# EAGLE library part ESP32-32D (library CustomParts)
IC: SoC; GPIO, I2C, I2S, IR, SD, SDIO, SPI, UART; 2.7÷3.6VDC; 20dBm
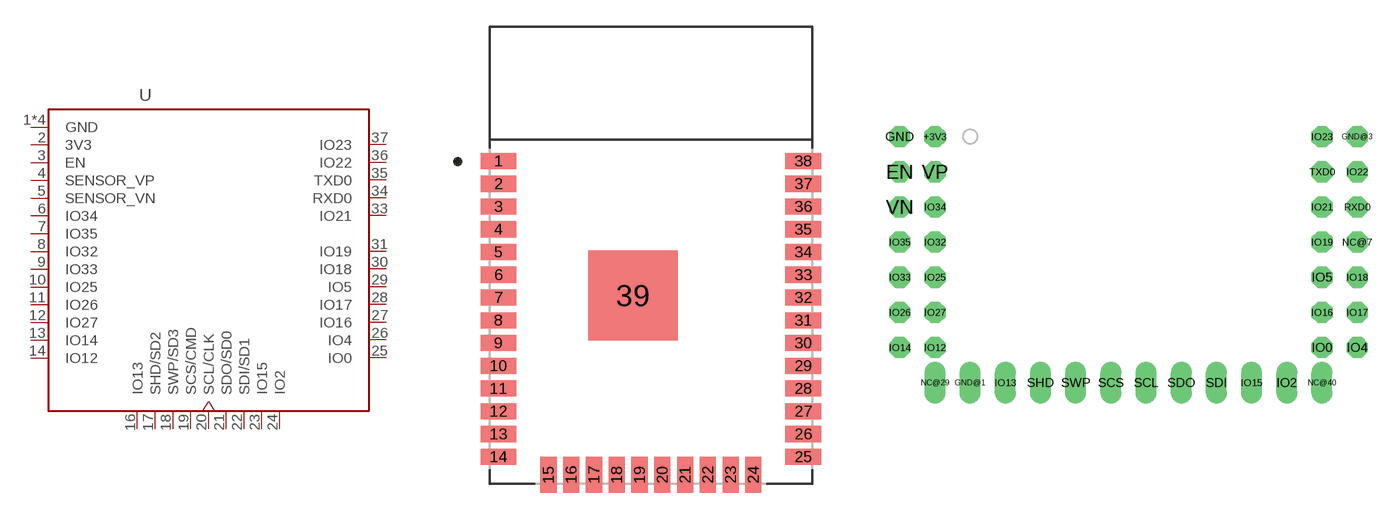
[diagram p5: symbol with the pads of MODULE_ESP32-WROOM-32D; footprints MODULE_ESP32-WROOM-32D, ESP32_MODULE_ADAPTOR]

Designator prefix U

## ESP32-32DMODULE (AVAILABILITY: Unavailable; DESCRIPTION: Bluetooth, WiFi 802.11b/g/n, Bluetooth v4.2 + EDR, Class 1, 2 and 3 Transceiver Module 2.4GHz ~ 2.5GHz Integrated, Trace Surface Mount; MF: Espressif Systems; MP: ESP32-WROOM-32D; PACKAGE: Module Espressif Systems; PRICE: None)  [MODULE_ESP32-WROOM-32D]
1  GND
2  3V3
3  EN  in
4  SENSOR_VP  in
5  SENSOR_VN  in
6  IO34
7  IO35
8  IO32
9  IO33
10  IO25
11  IO26
12  IO27
13  IO14
14  IO12
15  GND
16  IO13
17  SHD/SD2
18  SWP/SD3
19  SCS/CMD
20  SCL/CLK
21  SDO/SD0
22  SDI/SD1
23  IO15
24  IO2
25  IO0
26  IO4
27  IO16
28  IO17
29  IO5
30  IO18
31  IO19
33  IO21
34  RXD0
35  TXD0
36  IO22
37  IO23
38  GND
39  GND

## ESP32-32DADAPTOR  [ESP32_MODULE_ADAPTOR]
+3V3  3V3
EN  EN  in
GND  GND
GND@1  GND
GND@3  GND
IO0  IO0
IO2  IO2
IO4  IO4
IO5  IO5
IO12  IO12
IO13  IO13
IO14  IO14
IO15  IO15
IO16  IO16
IO17  IO17
IO18  IO18
IO19  IO19
IO21  IO21
IO22  IO22
IO23  IO23
IO25  IO25
IO26  IO26
IO27  IO27
IO32  IO32
IO33  IO33
IO34  IO34
IO35  IO35
RXD0  RXD0
SCL  SCL/CLK
SCS  SCS/CMD
SDI  SDI/SD1
SDO  SDO/SD0
SHD  SHD/SD2
SWP  SWP/SD3
TXD0  TXD0
VN  SENSOR_VN  in
VP  SENSOR_VP  in

## Footprint MODULE_ESP32-WROOM-32D (pad centres in mm)
smd 2 x 0.9: 1 -8.5,5.26; 2 -8.5,3.99; 3 -8.5,2.72; 4 -8.5,1.45; 5 -8.5,0.18; 6 -8.5,-1.09; 7 -8.5,-2.36; 8 -8.5,-3.63; 9 -8.5,-4.9; 10 -8.5,-6.17; 11 -8.5,-7.44; 12 -8.5,-8.71; 13 -8.5,-9.98; 14 -8.5,-11.25; 25 8.5,-11.25; 26 8.5,-9.98; 27 8.5,-8.71; 28 8.5,-7.44; 29 8.5,-6.17; 30 8.5,-4.9; 31 8.5,-3.63; 32 8.5,-2.36; 33 8.5,-1.09; 34 8.5,0.18; 35 8.5,1.45; 36 8.5,2.72; 37 8.5,3.99; 38 8.5,5.26
smd 0.9 x 2: 15 -5.715,-12.25; 16 -4.445,-12.25; 17 -3.175,-12.25; 18 -1.905,-12.25; 19 -0.635,-12.25; 20 0.635,-12.25; 21 1.905,-12.25; 22 3.175,-12.25; 23 4.445,-12.25; 24 5.715,-12.25
smd 5 x 5: 39 -1,-2.24

## Footprint ESP32_MODULE_ADAPTOR (pad centres in mm)
drill 1.016 octagon: +3V3 -13.97,8.89; EN -16.51,6.35; GND -16.51,8.89; GND@3 16.51,8.89; IO0 13.97,-6.35; IO4 16.51,-6.35; IO5 13.97,-1.27; IO12 -13.97,-6.35; IO14 -16.51,-6.35; IO16 13.97,-3.81; IO17 16.51,-3.81; IO18 16.51,-1.27; IO19 13.97,1.27; IO21 13.97,3.81; IO22 16.51,6.35; IO23 13.97,8.89; IO25 -13.97,-1.27; IO26 -16.51,-3.81; IO27 -13.97,-3.81; IO32 -13.97,1.27; IO33 -16.51,-1.27; IO34 -13.97,3.81; IO35 -16.51,1.27; NC@7 16.51,1.27; RXD0 16.51,3.81; TXD0 13.97,6.35; VN -16.51,3.81; VP -13.97,6.35
drill 1.016 long: GND@1 -11.43,-8.89; IO2 11.43,-8.89; IO13 -8.89,-8.89; IO15 8.89,-8.89; NC@29 -13.97,-8.89; NC@40 13.97,-8.89; SCL 1.27,-8.89; SCS -1.27,-8.89; SDI 6.35,-8.89; SDO 3.81,-8.89; SHD -6.35,-8.89; SWP -3.81,-8.89